# EAGLE library part BT_PL (library _dallas)
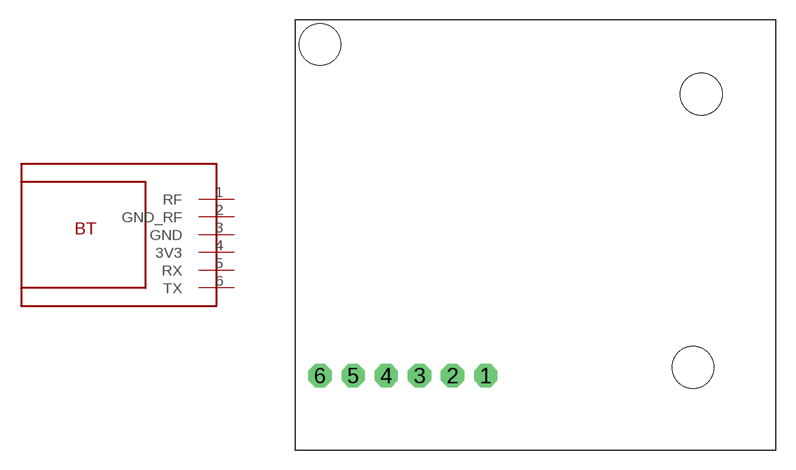
[diagram p1: symbol with the pads of BT_PL; footprint BT_PL]

Designator prefix -

## BT_PL  [BT_PL]
1  RF
2  GND_RF
3  GND
4  3V3
5  RX
6  TX

## Footprint BT_PL (pad centres in mm)
drill 0.8 pad 1.778 octagon: 1 14.605,5.715; 2 12.065,5.715; 3 9.525,5.715; 4 6.985,5.715; 5 4.445,5.715; 6 1.905,5.715
hole 3.2 at 1.905,31.115
hole 3.2 at 30.48,6.35
hole 3.2 at 31.115,27.305